# Altium integrated library TI Interface LVDS M-LVDS ECL CML.IntLib: 251 symbols (part 9 of 10)
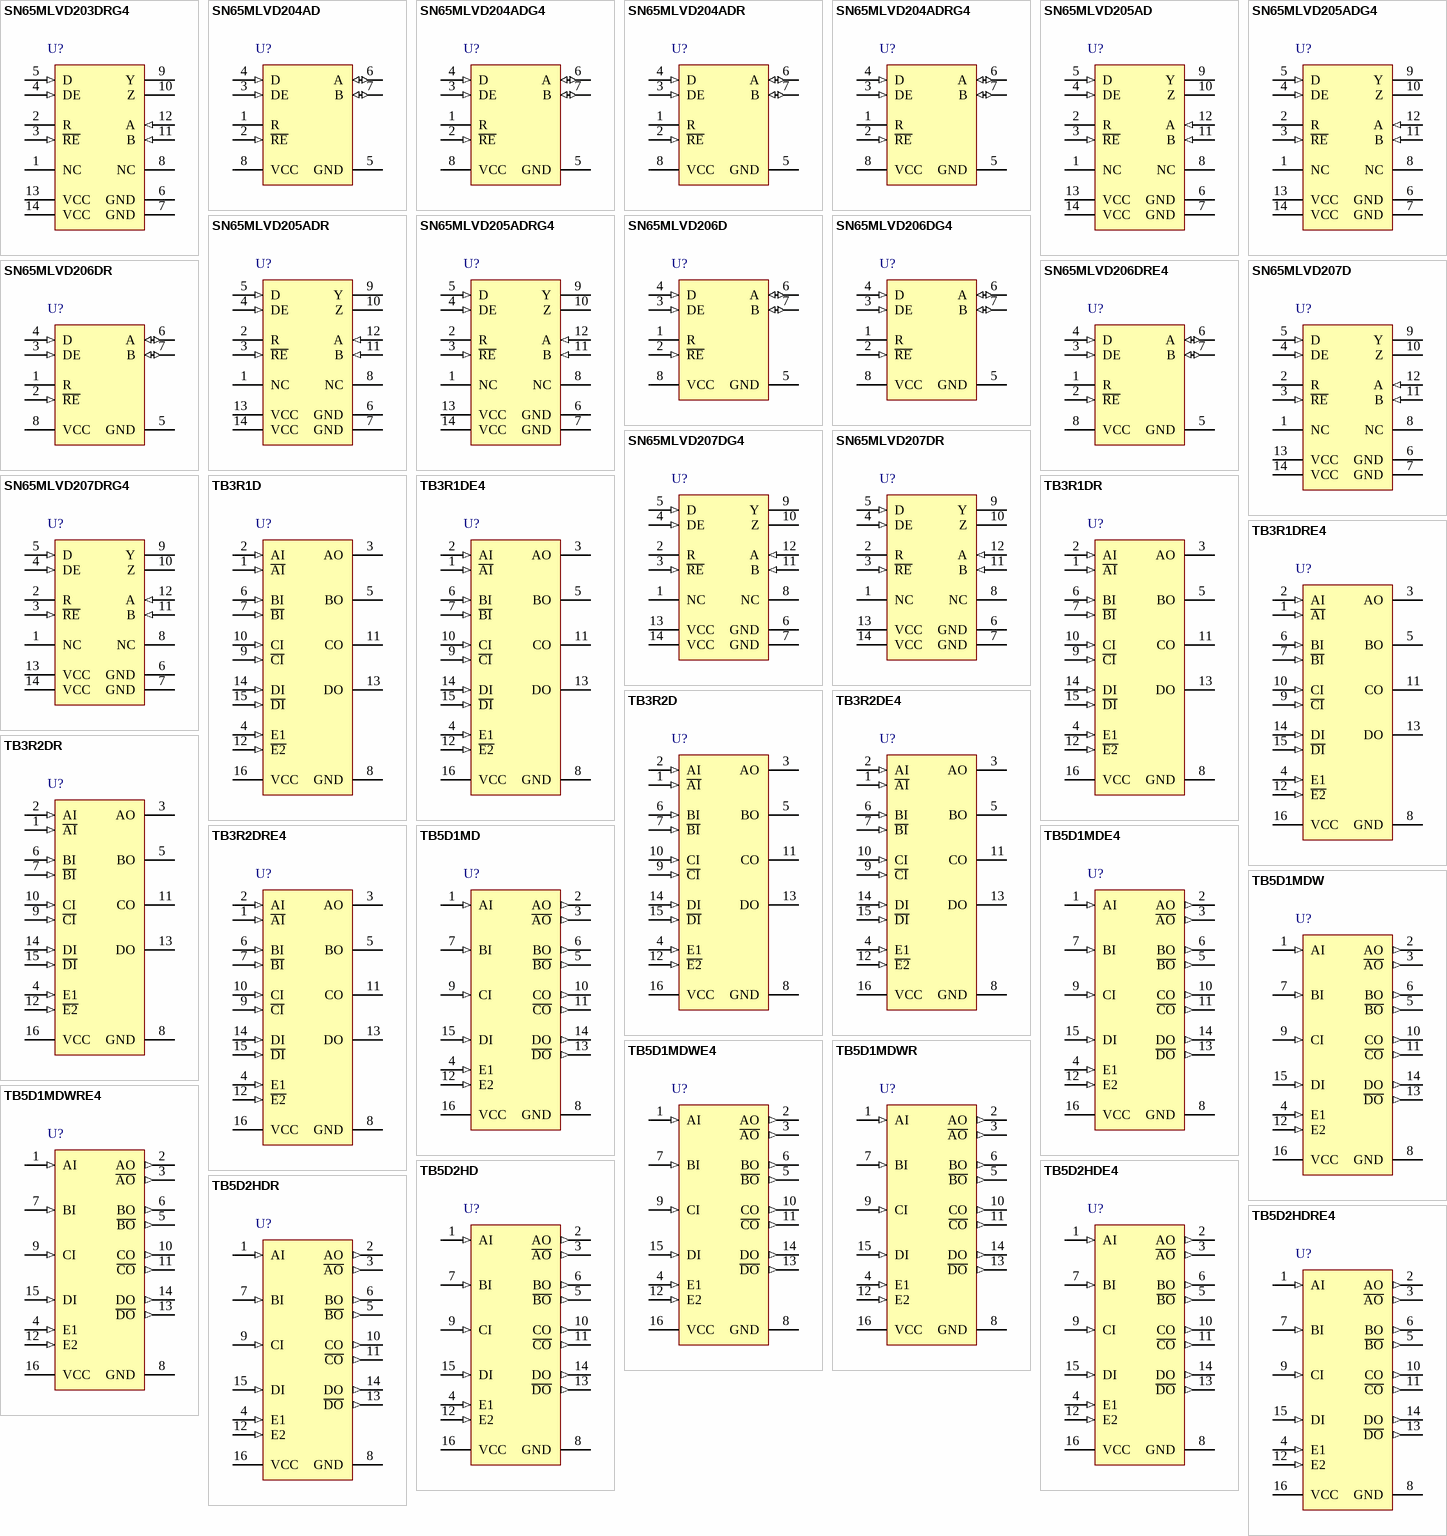
[diagram p17: symbols SN65MLVD203DRG4 to TB5D2HDRE4]

## SN65MLVD207DR
designator U?
200 Mbps Full Duplex M-LVDS Transceiver with LVTTL Input and LVTTL Output, 1 Tx and 1 Rx, -40 to +85 degC, 14-pin SOIC (D), Green (RoHS & no Sb/Br); Part-to-Part Skew(Max)(ps): 1000; Manufacturer: Texas Instruments; PartNumber: SN65MLVD207DR; ESD HBM(kV): 8; ICC(Max)(mA): 24; Input Signal: LVTTL, M-LVDS; No. of Rx: 1; Signaling Rate(Mbps): 200; SubFamily: M-LVDS PHY (<500Mbps); DatasheetVersion: SLLS558C; PackageVersion: revM, Jun-2011; PackageReference: D14; PackageDescription: 14-Pin Plastic Small Outline Integrated Circuit, 8.7 x 3.9 mm, Pitch 1.27 mm Pitch; Eco-Plan: Green (RoHS & no Sb/Br); Function: Transceiver; No. of Tx: 1; Output Signal: LVTTL, M-LVDS; Mounting Technology: Surface Mount; Code_JEDEC: MS-012AB; ComponentLink1Description: Datasheet; ComponentLink1URL: http://www.ti.com/general/docs/lit/getliterature.tsp?genericPartNumber=SN65MLVD207&fileType=pdf; ComponentLink2Description: URL Link1; ComponentLink2URL: SamplesURL:http://www.ti.com/product/sn65mlvd207#samples
footprint D14_N (SOIC, 14-Leads, Body 8.7x3.9mm, Pitch 1.27mm, IPC Medium Density)
footprint D14_L (SOIC, 14-Leads, Body 8.7x3.9mm, Pitch 1.27mm, IPC High Density)
footprint D14_M (SOIC, 14-Leads, Body 8.7x3.9mm, Pitch 1.27mm, IPC Low Density)
pins: 1 NC, 2 R (hiz), 3 ~{RE} (in), 4 DE (in), 5 D (in), 6 GND (power), 7 GND (power), 8 NC, 9 Y (hiz), 10 Z (hiz), 11 B (in), 12 A (in), 13 VCC (power), 14 VCC (power)

## SN65MLVD207DRG4
designator U?
200 Mbps Full Duplex M-LVDS Transceiver with LVTTL Input and LVTTL Output, 1 Tx and 1 Rx, -40 to +85 degC, 14-pin SOIC (D), Green (RoHS & no Sb/Br); Part-to-Part Skew(Max)(ps): 1000; Manufacturer: Texas Instruments; PartNumber: SN65MLVD207DRG4; ESD HBM(kV): 8; ICC(Max)(mA): 24; Input Signal: LVTTL, M-LVDS; No. of Rx: 1; Signaling Rate(Mbps): 200; SubFamily: M-LVDS PHY (<500Mbps); DatasheetVersion: SLLS558C; PackageVersion: revM, Jun-2011; PackageReference: D14; PackageDescription: 14-Pin Plastic Small Outline Integrated Circuit, 8.7 x 3.9 mm, Pitch 1.27 mm Pitch; Eco-Plan: Green (RoHS & no Sb/Br); Function: Transceiver; No. of Tx: 1; Output Signal: LVTTL, M-LVDS; Mounting Technology: Surface Mount; Code_JEDEC: MS-012AB; ComponentLink1Description: Datasheet; ComponentLink1URL: http://www.ti.com/general/docs/lit/getliterature.tsp?genericPartNumber=SN65MLVD207&fileType=pdf; ComponentLink2Description: URL Link1; ComponentLink2URL: SamplesURL:http://www.ti.com/product/sn65mlvd207#samples
footprint D14_N (SOIC, 14-Leads, Body 8.7x3.9mm, Pitch 1.27mm, IPC Medium Density)
footprint D14_L (SOIC, 14-Leads, Body 8.7x3.9mm, Pitch 1.27mm, IPC High Density)
footprint D14_M (SOIC, 14-Leads, Body 8.7x3.9mm, Pitch 1.27mm, IPC Low Density)
pins: 1 NC, 2 R (hiz), 3 ~{RE} (in), 4 DE (in), 5 D (in), 6 GND (power), 7 GND (power), 8 NC, 9 Y (hiz), 10 Z (hiz), 11 B (in), 12 A (in), 13 VCC (power), 14 VCC (power)

## TB3R1D
designator U?
3.3 V Quad PECL Receiver with TTL Output, 4 Rx, -40 to +85 degC, 16-pin SOIC (D), Pb-Free (RoHS); Part-to-Part Skew(Max)(ps): 1500; Manufacturer: Texas Instruments; PartNumber: TB3R1D; ICC(Max)(mA): 34; No. of Rx: 4; SubFamily: PECL PHY; xECL: TRUE; DatasheetVersion: SLLS587C; PackageVersion: revM, Jun-2011; PackageReference: D16; PackageDescription: 16-Pin Plastic Small Outline Integrated Circuit, 9.9 x 3.9 mm, Pitch 1.27 mm Pitch; Eco-Plan: Pb-Free (RoHS); Input Signal: PECL; Output Signal: TTL; Mounting Technology: Surface Mount; Code_JEDEC: MS-012AC; ComponentLink1Description: Datasheet; ComponentLink1URL: http://www.ti.com/general/docs/lit/getliterature.tsp?genericPartNumber=TB3R1&fileType=pdf; ComponentLink2Description: URL Link1; ComponentLink2URL: SamplesURL:http://www.ti.com/product/tb3r1#samples
footprint D16_N (SOIC, 16-Leads, Body 9.9x3.9mm, Pitch 1.27mm, IPC Medium Density)
footprint D16_L (SOIC, 16-Leads, Body 9.9x3.9mm, Pitch 1.27mm, IPC High Density)
footprint D16_M (SOIC, 16-Leads, Body 9.9x3.9mm, Pitch 1.27mm, IPC Low Density)
pins: 1 ~{AI} (in), 2 AI (in), 3 AO (hiz), 4 E1 (in), 5 BO (hiz), 6 BI (in), 7 ~{BI} (in), 8 GND (power), 9 ~{CI} (in), 10 CI (in), 11 CO (hiz), 12 ~{E2} (in), 13 DO (hiz), 14 DI (in), 15 ~{DI} (in), 16 VCC (power)

## TB3R1DE4
designator U?
3.3 V Quad PECL Receiver with TTL Output, 4 Rx, -40 to +85 degC, 16-pin SOIC (D), Pb-Free (RoHS); Part-to-Part Skew(Max)(ps): 1500; Manufacturer: Texas Instruments; PartNumber: TB3R1DE4; ICC(Max)(mA): 34; No. of Rx: 4; SubFamily: PECL PHY; xECL: TRUE; DatasheetVersion: SLLS587C; PackageVersion: revM, Jun-2011; PackageReference: D16; PackageDescription: 16-Pin Plastic Small Outline Integrated Circuit, 9.9 x 3.9 mm, Pitch 1.27 mm Pitch; Eco-Plan: Pb-Free (RoHS); Input Signal: PECL; Output Signal: TTL; Mounting Technology: Surface Mount; Code_JEDEC: MS-012AC; ComponentLink1Description: Datasheet; ComponentLink1URL: http://www.ti.com/general/docs/lit/getliterature.tsp?genericPartNumber=TB3R1&fileType=pdf; ComponentLink2Description: URL Link1; ComponentLink2URL: SamplesURL:http://www.ti.com/product/tb3r1#samples
footprint D16_N (SOIC, 16-Leads, Body 9.9x3.9mm, Pitch 1.27mm, IPC Medium Density)
footprint D16_L (SOIC, 16-Leads, Body 9.9x3.9mm, Pitch 1.27mm, IPC High Density)
footprint D16_M (SOIC, 16-Leads, Body 9.9x3.9mm, Pitch 1.27mm, IPC Low Density)
pins: 1 ~{AI} (in), 2 AI (in), 3 AO (hiz), 4 E1 (in), 5 BO (hiz), 6 BI (in), 7 ~{BI} (in), 8 GND (power), 9 ~{CI} (in), 10 CI (in), 11 CO (hiz), 12 ~{E2} (in), 13 DO (hiz), 14 DI (in), 15 ~{DI} (in), 16 VCC (power)

## TB3R1DR
designator U?
3.3 V Quad PECL Receiver with TTL Output, 4 Rx, -40 to +85 degC, 16-pin SOIC (D), Pb-Free (RoHS); Part-to-Part Skew(Max)(ps): 1500; Manufacturer: Texas Instruments; PartNumber: TB3R1DR; ICC(Max)(mA): 34; No. of Rx: 4; SubFamily: PECL PHY; xECL: TRUE; DatasheetVersion: SLLS587C; PackageVersion: revM, Jun-2011; PackageReference: D16; PackageDescription: 16-Pin Plastic Small Outline Integrated Circuit, 9.9 x 3.9 mm, Pitch 1.27 mm Pitch; Eco-Plan: Pb-Free (RoHS); Input Signal: PECL; Output Signal: TTL; Mounting Technology: Surface Mount; Code_JEDEC: MS-012AC; ComponentLink1Description: Datasheet; ComponentLink1URL: http://www.ti.com/general/docs/lit/getliterature.tsp?genericPartNumber=TB3R1&fileType=pdf; ComponentLink2Description: URL Link1; ComponentLink2URL: SamplesURL:http://www.ti.com/product/tb3r1#samples
footprint D16_N (SOIC, 16-Leads, Body 9.9x3.9mm, Pitch 1.27mm, IPC Medium Density)
footprint D16_L (SOIC, 16-Leads, Body 9.9x3.9mm, Pitch 1.27mm, IPC High Density)
footprint D16_M (SOIC, 16-Leads, Body 9.9x3.9mm, Pitch 1.27mm, IPC Low Density)
pins: 1 ~{AI} (in), 2 AI (in), 3 AO (hiz), 4 E1 (in), 5 BO (hiz), 6 BI (in), 7 ~{BI} (in), 8 GND (power), 9 ~{CI} (in), 10 CI (in), 11 CO (hiz), 12 ~{E2} (in), 13 DO (hiz), 14 DI (in), 15 ~{DI} (in), 16 VCC (power)

## TB3R1DRE4
designator U?
3.3 V Quad PECL Receiver with TTL Output, 4 Rx, -40 to +85 degC, 16-pin SOIC (D), Pb-Free (RoHS); Part-to-Part Skew(Max)(ps): 1500; Manufacturer: Texas Instruments; PartNumber: TB3R1DRE4; ICC(Max)(mA): 34; No. of Rx: 4; SubFamily: PECL PHY; xECL: TRUE; DatasheetVersion: SLLS587C; PackageVersion: revM, Jun-2011; PackageReference: D16; PackageDescription: 16-Pin Plastic Small Outline Integrated Circuit, 9.9 x 3.9 mm, Pitch 1.27 mm Pitch; Eco-Plan: Pb-Free (RoHS); Input Signal: PECL; Output Signal: TTL; Mounting Technology: Surface Mount; Code_JEDEC: MS-012AC; ComponentLink1Description: Datasheet; ComponentLink1URL: http://www.ti.com/general/docs/lit/getliterature.tsp?genericPartNumber=TB3R1&fileType=pdf; ComponentLink2Description: URL Link1; ComponentLink2URL: SamplesURL:http://www.ti.com/product/tb3r1#samples
footprint D16_N (SOIC, 16-Leads, Body 9.9x3.9mm, Pitch 1.27mm, IPC Medium Density)
footprint D16_L (SOIC, 16-Leads, Body 9.9x3.9mm, Pitch 1.27mm, IPC High Density)
footprint D16_M (SOIC, 16-Leads, Body 9.9x3.9mm, Pitch 1.27mm, IPC Low Density)
pins: 1 ~{AI} (in), 2 AI (in), 3 AO (hiz), 4 E1 (in), 5 BO (hiz), 6 BI (in), 7 ~{BI} (in), 8 GND (power), 9 ~{CI} (in), 10 CI (in), 11 CO (hiz), 12 ~{E2} (in), 13 DO (hiz), 14 DI (in), 15 ~{DI} (in), 16 VCC (power)

## TB3R2D
designator U?
TB3R1, TB3R2 - High-Speed Differential Receivers with PECL Input and TTL Output, 4 Tx and 4 Rx, -40 to +85 degC, 16-pin SOIC (D), Pb-Free (RoHS); Part-to-Part Skew(Max)(ps): 1500; Manufacturer: Texas Instruments; PartNumber: TB3R2D; ICC(Max)(mA): 34; No. of Rx: 4; SubFamily: PECL PHY; xECL: TRUE; DatasheetVersion: SLLS587C; PackageVersion: revM, Jun-2011; PackageReference: D16; PackageDescription: 16-Pin Plastic Small Outline Integrated Circuit, 9.9 x 3.9 mm, Pitch 1.27 mm Pitch; Eco-Plan: Pb-Free (RoHS); Input Signal: PECL; No. of Tx: 4; Output Signal: TTL; Mounting Technology: Surface Mount; Code_JEDEC: MS-012AC; ComponentLink1Description: Datasheet; ComponentLink1URL: http://www.ti.com/general/docs/lit/getliterature.tsp?genericPartNumber=TB3R2&fileType=pdf; ComponentLink2Description: URL Link1; ComponentLink2URL: SamplesURL:http://www.ti.com/product/tb3r2#samples
footprint D16_N (SOIC, 16-Leads, Body 9.9x3.9mm, Pitch 1.27mm, IPC Medium Density)
footprint D16_L (SOIC, 16-Leads, Body 9.9x3.9mm, Pitch 1.27mm, IPC High Density)
footprint D16_M (SOIC, 16-Leads, Body 9.9x3.9mm, Pitch 1.27mm, IPC Low Density)
pins: 1 ~{AI} (in), 2 AI (in), 3 AO (hiz), 4 E1 (in), 5 BO (hiz), 6 BI (in), 7 ~{BI} (in), 8 GND (power), 9 ~{CI} (in), 10 CI (in), 11 CO (hiz), 12 ~{E2} (in), 13 DO (hiz), 14 DI (in), 15 ~{DI} (in), 16 VCC (power)

## TB3R2DE4
designator U?
TB3R1, TB3R2 - High-Speed Differential Receivers with PECL Input and TTL Output, 4 Tx and 4 Rx, -40 to +85 degC, 16-pin SOIC (D), Pb-Free (RoHS); Part-to-Part Skew(Max)(ps): 1500; Manufacturer: Texas Instruments; PartNumber: TB3R2DE4; ICC(Max)(mA): 34; No. of Rx: 4; SubFamily: PECL PHY; xECL: TRUE; DatasheetVersion: SLLS587C; PackageVersion: revM, Jun-2011; PackageReference: D16; PackageDescription: 16-Pin Plastic Small Outline Integrated Circuit, 9.9 x 3.9 mm, Pitch 1.27 mm Pitch; Eco-Plan: Pb-Free (RoHS); Input Signal: PECL; No. of Tx: 4; Output Signal: TTL; Mounting Technology: Surface Mount; Code_JEDEC: MS-012AC; ComponentLink1Description: Datasheet; ComponentLink1URL: http://www.ti.com/general/docs/lit/getliterature.tsp?genericPartNumber=TB3R2&fileType=pdf; ComponentLink2Description: URL Link1; ComponentLink2URL: SamplesURL:http://www.ti.com/product/tb3r2#samples
footprint D16_N (SOIC, 16-Leads, Body 9.9x3.9mm, Pitch 1.27mm, IPC Medium Density)
footprint D16_L (SOIC, 16-Leads, Body 9.9x3.9mm, Pitch 1.27mm, IPC High Density)
footprint D16_M (SOIC, 16-Leads, Body 9.9x3.9mm, Pitch 1.27mm, IPC Low Density)
pins: 1 ~{AI} (in), 2 AI (in), 3 AO (hiz), 4 E1 (in), 5 BO (hiz), 6 BI (in), 7 ~{BI} (in), 8 GND (power), 9 ~{CI} (in), 10 CI (in), 11 CO (hiz), 12 ~{E2} (in), 13 DO (hiz), 14 DI (in), 15 ~{DI} (in), 16 VCC (power)

## TB3R2DR
designator U?
TB3R1, TB3R2 - High-Speed Differential Receivers with PECL Input and TTL Output, 4 Tx and 4 Rx, -40 to +85 degC, 16-pin SOIC (D), Pb-Free (RoHS); Part-to-Part Skew(Max)(ps): 1500; Manufacturer: Texas Instruments; PartNumber: TB3R2DR; ICC(Max)(mA): 34; No. of Rx: 4; SubFamily: PECL PHY; xECL: TRUE; DatasheetVersion: SLLS587C; PackageVersion: revM, Jun-2011; PackageReference: D16; PackageDescription: 16-Pin Plastic Small Outline Integrated Circuit, 9.9 x 3.9 mm, Pitch 1.27 mm Pitch; Eco-Plan: Pb-Free (RoHS); Input Signal: PECL; No. of Tx: 4; Output Signal: TTL; Mounting Technology: Surface Mount; Code_JEDEC: MS-012AC; ComponentLink1Description: Datasheet; ComponentLink1URL: http://www.ti.com/general/docs/lit/getliterature.tsp?genericPartNumber=TB3R2&fileType=pdf; ComponentLink2Description: URL Link1; ComponentLink2URL: SamplesURL:http://www.ti.com/product/tb3r2#samples
footprint D16_N (SOIC, 16-Leads, Body 9.9x3.9mm, Pitch 1.27mm, IPC Medium Density)
footprint D16_L (SOIC, 16-Leads, Body 9.9x3.9mm, Pitch 1.27mm, IPC High Density)
footprint D16_M (SOIC, 16-Leads, Body 9.9x3.9mm, Pitch 1.27mm, IPC Low Density)
pins: 1 ~{AI} (in), 2 AI (in), 3 AO (hiz), 4 E1 (in), 5 BO (hiz), 6 BI (in), 7 ~{BI} (in), 8 GND (power), 9 ~{CI} (in), 10 CI (in), 11 CO (hiz), 12 ~{E2} (in), 13 DO (hiz), 14 DI (in), 15 ~{DI} (in), 16 VCC (power)

## TB3R2DRE4
designator U?
TB3R1, TB3R2 - High-Speed Differential Receivers with PECL Input and TTL Output, 4 Tx and 4 Rx, -40 to +85 degC, 16-pin SOIC (D), Pb-Free (RoHS); Part-to-Part Skew(Max)(ps): 1500; Manufacturer: Texas Instruments; PartNumber: TB3R2DRE4; ICC(Max)(mA): 34; No. of Rx: 4; SubFamily: PECL PHY; xECL: TRUE; DatasheetVersion: SLLS587C; PackageVersion: revM, Jun-2011; PackageReference: D16; PackageDescription: 16-Pin Plastic Small Outline Integrated Circuit, 9.9 x 3.9 mm, Pitch 1.27 mm Pitch; Eco-Plan: Pb-Free (RoHS); Input Signal: PECL; No. of Tx: 4; Output Signal: TTL; Mounting Technology: Surface Mount; Code_JEDEC: MS-012AC; ComponentLink1Description: Datasheet; ComponentLink1URL: http://www.ti.com/general/docs/lit/getliterature.tsp?genericPartNumber=TB3R2&fileType=pdf; ComponentLink2Description: URL Link1; ComponentLink2URL: SamplesURL:http://www.ti.com/product/tb3r2#samples
footprint D16_N (SOIC, 16-Leads, Body 9.9x3.9mm, Pitch 1.27mm, IPC Medium Density)
footprint D16_L (SOIC, 16-Leads, Body 9.9x3.9mm, Pitch 1.27mm, IPC High Density)
footprint D16_M (SOIC, 16-Leads, Body 9.9x3.9mm, Pitch 1.27mm, IPC Low Density)
pins: 1 ~{AI} (in), 2 AI (in), 3 AO (hiz), 4 E1 (in), 5 BO (hiz), 6 BI (in), 7 ~{BI} (in), 8 GND (power), 9 ~{CI} (in), 10 CI (in), 11 CO (hiz), 12 ~{E2} (in), 13 DO (hiz), 14 DI (in), 15 ~{DI} (in), 16 VCC (power)

## TB5D1MD
designator U?
5 V Quad PECL Driver with TTL Input and PECL Output, 4 Tx, -40 to +85 degC, 16-pin SOIC (D), Pb-Free (RoHS); Part-to-Part Skew(Max)(ps): 1000; Manufacturer: Texas Instruments; PartNumber: TB5D1MD; ICC(Max)(mA): 40; No. of Tx: 4; SubFamily: PECL PHY; xECL: TRUE; DatasheetVersion: SLLS579C; PackageVersion: revM, Jun-2011; PackageReference: D16; PackageDescription: 16-Pin Plastic Small Outline Integrated Circuit, 9.9 x 3.9 mm, Pitch 1.27 mm Pitch; Eco-Plan: Pb-Free (RoHS); Input Signal: TTL; Output Signal: PECL; Mounting Technology: Surface Mount; Code_JEDEC: MS-012AC; ComponentLink1Description: Datasheet; ComponentLink1URL: http://www.ti.com/general/docs/lit/getliterature.tsp?genericPartNumber=TB5D1M&fileType=pdf; ComponentLink2Description: URL Link1; ComponentLink2URL: SamplesURL:http://www.ti.com/product/tb5d1m#samples
footprint D16_N (SOIC, 16-Leads, Body 9.9x3.9mm, Pitch 1.27mm, IPC Medium Density)
footprint D16_L (SOIC, 16-Leads, Body 9.9x3.9mm, Pitch 1.27mm, IPC High Density)
footprint D16_M (SOIC, 16-Leads, Body 9.9x3.9mm, Pitch 1.27mm, IPC Low Density)
pins: 1 AI (in), 2 AO (out), 3 ~{AO} (out), 4 E1 (in), 5 ~{BO} (out), 6 BO (out), 7 BI (in), 8 GND (power), 9 CI (in), 10 CO (out), 11 ~{CO} (out), 12 E2 (in), 13 ~{DO} (out), 14 DO (out), 15 DI (in), 16 VCC (power)

## TB5D1MDE4
designator U?
5 V Quad PECL Driver with TTL Input and PECL Output, 4 Tx, -40 to +85 degC, 16-pin SOIC (D), Pb-Free (RoHS); Part-to-Part Skew(Max)(ps): 1000; Manufacturer: Texas Instruments; PartNumber: TB5D1MDE4; ICC(Max)(mA): 40; No. of Tx: 4; SubFamily: PECL PHY; xECL: TRUE; DatasheetVersion: SLLS579C; PackageVersion: revM, Jun-2011; PackageReference: D16; PackageDescription: 16-Pin Plastic Small Outline Integrated Circuit, 9.9 x 3.9 mm, Pitch 1.27 mm Pitch; Eco-Plan: Pb-Free (RoHS); Input Signal: TTL; Output Signal: PECL; Mounting Technology: Surface Mount; Code_JEDEC: MS-012AC; ComponentLink1Description: Datasheet; ComponentLink1URL: http://www.ti.com/general/docs/lit/getliterature.tsp?genericPartNumber=TB5D1M&fileType=pdf; ComponentLink2Description: URL Link1; ComponentLink2URL: SamplesURL:http://www.ti.com/product/tb5d1m#samples
footprint D16_N (SOIC, 16-Leads, Body 9.9x3.9mm, Pitch 1.27mm, IPC Medium Density)
footprint D16_L (SOIC, 16-Leads, Body 9.9x3.9mm, Pitch 1.27mm, IPC High Density)
footprint D16_M (SOIC, 16-Leads, Body 9.9x3.9mm, Pitch 1.27mm, IPC Low Density)
pins: 1 AI (in), 2 AO (out), 3 ~{AO} (out), 4 E1 (in), 5 ~{BO} (out), 6 BO (out), 7 BI (in), 8 GND (power), 9 CI (in), 10 CO (out), 11 ~{CO} (out), 12 E2 (in), 13 ~{DO} (out), 14 DO (out), 15 DI (in), 16 VCC (power)

## TB5D1MDW
designator U?
5 V Quad PECL Driver with TTL Input and PECL Output, 4 Tx, -40 to +85 degC, 16-pin SOIC (DW), Pb-Free (RoHS); Part-to-Part Skew(Max)(ps): 1000; Manufacturer: Texas Instruments; PartNumber: TB5D1MDW; ICC(Max)(mA): 40; No. of Tx: 4; SubFamily: PECL PHY; xECL: TRUE; DatasheetVersion: SLLS579C; PackageVersion: revG, Jan-2011; PackageReference: DW16; PackageDescription: 16-Pin Small Outline Integrated Circuit, 10.3 x 7.5 mm, Pitch 1.27 mm Pitch; Eco-Plan: Pb-Free (RoHS); Input Signal: TTL; Output Signal: PECL; Mounting Technology: Surface Mount; Code_JEDEC: MS-013-AA; ComponentLink1Description: Datasheet; ComponentLink1URL: http://www.ti.com/general/docs/lit/getliterature.tsp?genericPartNumber=TB5D1M&fileType=pdf; ComponentLink2Description: URL Link1; ComponentLink2URL: SamplesURL:http://www.ti.com/product/tb5d1m#samples
footprint DW16_N (SOIC, 16-Leads, Body 10.3x7.5mm, Pitch 1.27mm, IPC Medium Density)
footprint DW16_L (SOIC, 16-Leads, Body 10.3x7.5mm, Pitch 1.27mm, IPC High Density)
footprint DW16_M (SOIC, 16-Leads, Body 10.3x7.5mm, Pitch 1.27mm, IPC Low Density)
pins: 1 AI (in), 2 AO (out), 3 ~{AO} (out), 4 E1 (in), 5 ~{BO} (out), 6 BO (out), 7 BI (in), 8 GND (power), 9 CI (in), 10 CO (out), 11 ~{CO} (out), 12 E2 (in), 13 ~{DO} (out), 14 DO (out), 15 DI (in), 16 VCC (power)

## TB5D1MDWE4
designator U?
5 V Quad PECL Driver with TTL Input and PECL Output, 4 Tx, -40 to +85 degC, 16-pin SOIC (DW), Pb-Free (RoHS); Part-to-Part Skew(Max)(ps): 1000; Manufacturer: Texas Instruments; PartNumber: TB5D1MDWE4; ICC(Max)(mA): 40; No. of Tx: 4; SubFamily: PECL PHY; xECL: TRUE; DatasheetVersion: SLLS579C; PackageVersion: revG, Jan-2011; PackageReference: DW16; PackageDescription: 16-Pin Small Outline Integrated Circuit, 10.3 x 7.5 mm, Pitch 1.27 mm Pitch; Eco-Plan: Pb-Free (RoHS); Input Signal: TTL; Output Signal: PECL; Mounting Technology: Surface Mount; Code_JEDEC: MS-013-AA; ComponentLink1Description: Datasheet; ComponentLink1URL: http://www.ti.com/general/docs/lit/getliterature.tsp?genericPartNumber=TB5D1M&fileType=pdf; ComponentLink2Description: URL Link1; ComponentLink2URL: SamplesURL:http://www.ti.com/product/tb5d1m#samples
footprint DW16_N (SOIC, 16-Leads, Body 10.3x7.5mm, Pitch 1.27mm, IPC Medium Density)
footprint DW16_L (SOIC, 16-Leads, Body 10.3x7.5mm, Pitch 1.27mm, IPC High Density)
footprint DW16_M (SOIC, 16-Leads, Body 10.3x7.5mm, Pitch 1.27mm, IPC Low Density)
pins: 1 AI (in), 2 AO (out), 3 ~{AO} (out), 4 E1 (in), 5 ~{BO} (out), 6 BO (out), 7 BI (in), 8 GND (power), 9 CI (in), 10 CO (out), 11 ~{CO} (out), 12 E2 (in), 13 ~{DO} (out), 14 DO (out), 15 DI (in), 16 VCC (power)

## TB5D1MDWR
designator U?
5 V Quad PECL Driver with TTL Input and PECL Output, 4 Tx, -40 to +85 degC, 16-pin SOIC (DW), Pb-Free (RoHS); Part-to-Part Skew(Max)(ps): 1000; Manufacturer: Texas Instruments; PartNumber: TB5D1MDWR; ICC(Max)(mA): 40; No. of Tx: 4; SubFamily: PECL PHY; xECL: TRUE; DatasheetVersion: SLLS579C; PackageVersion: revG, Jan-2011; PackageReference: DW16; PackageDescription: 16-Pin Small Outline Integrated Circuit, 10.3 x 7.5 mm, Pitch 1.27 mm Pitch; Eco-Plan: Pb-Free (RoHS); Input Signal: TTL; Output Signal: PECL; Mounting Technology: Surface Mount; Code_JEDEC: MS-013-AA; ComponentLink1Description: Datasheet; ComponentLink1URL: http://www.ti.com/general/docs/lit/getliterature.tsp?genericPartNumber=TB5D1M&fileType=pdf; ComponentLink2Description: URL Link1; ComponentLink2URL: SamplesURL:http://www.ti.com/product/tb5d1m#samples
footprint DW16_N (SOIC, 16-Leads, Body 10.3x7.5mm, Pitch 1.27mm, IPC Medium Density)
footprint DW16_L (SOIC, 16-Leads, Body 10.3x7.5mm, Pitch 1.27mm, IPC High Density)
footprint DW16_M (SOIC, 16-Leads, Body 10.3x7.5mm, Pitch 1.27mm, IPC Low Density)
pins: 1 AI (in), 2 AO (out), 3 ~{AO} (out), 4 E1 (in), 5 ~{BO} (out), 6 BO (out), 7 BI (in), 8 GND (power), 9 CI (in), 10 CO (out), 11 ~{CO} (out), 12 E2 (in), 13 ~{DO} (out), 14 DO (out), 15 DI (in), 16 VCC (power)

## TB5D1MDWRE4
designator U?
5 V Quad PECL Driver with TTL Input and PECL Output, 4 Tx, -40 to +85 degC, 16-pin SOIC (DW), Pb-Free (RoHS); Part-to-Part Skew(Max)(ps): 1000; Manufacturer: Texas Instruments; PartNumber: TB5D1MDWRE4; ICC(Max)(mA): 40; No. of Tx: 4; SubFamily: PECL PHY; xECL: TRUE; DatasheetVersion: SLLS579C; PackageVersion: revG, Jan-2011; PackageReference: DW16; PackageDescription: 16-Pin Small Outline Integrated Circuit, 10.3 x 7.5 mm, Pitch 1.27 mm Pitch; Eco-Plan: Pb-Free (RoHS); Input Signal: TTL; Output Signal: PECL; Mounting Technology: Surface Mount; Code_JEDEC: MS-013-AA; ComponentLink1Description: Datasheet; ComponentLink1URL: http://www.ti.com/general/docs/lit/getliterature.tsp?genericPartNumber=TB5D1M&fileType=pdf; ComponentLink2Description: URL Link1; ComponentLink2URL: SamplesURL:http://www.ti.com/product/tb5d1m#samples
footprint DW16_N (SOIC, 16-Leads, Body 10.3x7.5mm, Pitch 1.27mm, IPC Medium Density)
footprint DW16_L (SOIC, 16-Leads, Body 10.3x7.5mm, Pitch 1.27mm, IPC High Density)
footprint DW16_M (SOIC, 16-Leads, Body 10.3x7.5mm, Pitch 1.27mm, IPC Low Density)
pins: 1 AI (in), 2 AO (out), 3 ~{AO} (out), 4 E1 (in), 5 ~{BO} (out), 6 BO (out), 7 BI (in), 8 GND (power), 9 CI (in), 10 CO (out), 11 ~{CO} (out), 12 E2 (in), 13 ~{DO} (out), 14 DO (out), 15 DI (in), 16 VCC (power)

## TB5D2HD
designator U?
5 V Quad PECL Driver with TTL Input and PECL Output, 4 Tx, -40 to +85 degC, 16-pin SOIC (D), Pb-Free (RoHS); Part-to-Part Skew(Max)(ps): 1000; Manufacturer: Texas Instruments; PartNumber: TB5D2HD; ICC(Max)(mA): 40; No. of Tx: 4; SubFamily: PECL PHY; xECL: TRUE; DatasheetVersion: SLLS579C; PackageVersion: revM, Jun-2011; PackageReference: D16; PackageDescription: 16-Pin Plastic Small Outline Integrated Circuit, 9.9 x 3.9 mm, Pitch 1.27 mm Pitch; Eco-Plan: Pb-Free (RoHS); Input Signal: TTL; Output Signal: PECL; Mounting Technology: Surface Mount; Code_JEDEC: MS-012AC; ComponentLink1Description: Datasheet; ComponentLink1URL: http://www.ti.com/general/docs/lit/getliterature.tsp?genericPartNumber=TB5D2H&fileType=pdf; ComponentLink2Description: URL Link1; ComponentLink2URL: SamplesURL:http://www.ti.com/product/tb5d2h#samples
footprint D16_N (SOIC, 16-Leads, Body 9.9x3.9mm, Pitch 1.27mm, IPC Medium Density)
footprint D16_L (SOIC, 16-Leads, Body 9.9x3.9mm, Pitch 1.27mm, IPC High Density)
footprint D16_M (SOIC, 16-Leads, Body 9.9x3.9mm, Pitch 1.27mm, IPC Low Density)
pins: 1 AI (in), 2 AO (out), 3 ~{AO} (out), 4 E1 (in), 5 ~{BO} (out), 6 BO (out), 7 BI (in), 8 GND (power), 9 CI (in), 10 CO (out), 11 ~{CO} (out), 12 E2 (in), 13 ~{DO} (out), 14 DO (out), 15 DI (in), 16 VCC (power)

## TB5D2HDE4
designator U?
5 V Quad PECL Driver with TTL Input and PECL Output, 4 Tx, -40 to +85 degC, 16-pin SOIC (D), Pb-Free (RoHS); Part-to-Part Skew(Max)(ps): 1000; Manufacturer: Texas Instruments; PartNumber: TB5D2HDE4; ICC(Max)(mA): 40; No. of Tx: 4; SubFamily: PECL PHY; xECL: TRUE; DatasheetVersion: SLLS579C; PackageVersion: revM, Jun-2011; PackageReference: D16; PackageDescription: 16-Pin Plastic Small Outline Integrated Circuit, 9.9 x 3.9 mm, Pitch 1.27 mm Pitch; Eco-Plan: Pb-Free (RoHS); Input Signal: TTL; Output Signal: PECL; Mounting Technology: Surface Mount; Code_JEDEC: MS-012AC; ComponentLink1Description: Datasheet; ComponentLink1URL: http://www.ti.com/general/docs/lit/getliterature.tsp?genericPartNumber=TB5D2H&fileType=pdf; ComponentLink2Description: URL Link1; ComponentLink2URL: SamplesURL:http://www.ti.com/product/tb5d2h#samples
footprint D16_N (SOIC, 16-Leads, Body 9.9x3.9mm, Pitch 1.27mm, IPC Medium Density)
footprint D16_L (SOIC, 16-Leads, Body 9.9x3.9mm, Pitch 1.27mm, IPC High Density)
footprint D16_M (SOIC, 16-Leads, Body 9.9x3.9mm, Pitch 1.27mm, IPC Low Density)
pins: 1 AI (in), 2 AO (out), 3 ~{AO} (out), 4 E1 (in), 5 ~{BO} (out), 6 BO (out), 7 BI (in), 8 GND (power), 9 CI (in), 10 CO (out), 11 ~{CO} (out), 12 E2 (in), 13 ~{DO} (out), 14 DO (out), 15 DI (in), 16 VCC (power)

## TB5D2HDR
designator U?
5 V Quad PECL Driver with TTL Input and PECL Output, 4 Tx, -40 to +85 degC, 16-pin SOIC (D), Pb-Free (RoHS); Part-to-Part Skew(Max)(ps): 1000; Manufacturer: Texas Instruments; PartNumber: TB5D2HDR; ICC(Max)(mA): 40; No. of Tx: 4; SubFamily: PECL PHY; xECL: TRUE; DatasheetVersion: SLLS579C; PackageVersion: revM, Jun-2011; PackageReference: D16; PackageDescription: 16-Pin Plastic Small Outline Integrated Circuit, 9.9 x 3.9 mm, Pitch 1.27 mm Pitch; Eco-Plan: Pb-Free (RoHS); Input Signal: TTL; Output Signal: PECL; Mounting Technology: Surface Mount; Code_JEDEC: MS-012AC; ComponentLink1Description: Datasheet; ComponentLink1URL: http://www.ti.com/general/docs/lit/getliterature.tsp?genericPartNumber=TB5D2H&fileType=pdf; ComponentLink2Description: URL Link1; ComponentLink2URL: SamplesURL:http://www.ti.com/product/tb5d2h#samples
footprint D16_N (SOIC, 16-Leads, Body 9.9x3.9mm, Pitch 1.27mm, IPC Medium Density)
footprint D16_L (SOIC, 16-Leads, Body 9.9x3.9mm, Pitch 1.27mm, IPC High Density)
footprint D16_M (SOIC, 16-Leads, Body 9.9x3.9mm, Pitch 1.27mm, IPC Low Density)
pins: 1 AI (in), 2 AO (out), 3 ~{AO} (out), 4 E1 (in), 5 ~{BO} (out), 6 BO (out), 7 BI (in), 8 GND (power), 9 CI (in), 10 CO (out), 11 ~{CO} (out), 12 E2 (in), 13 ~{DO} (out), 14 DO (out), 15 DI (in), 16 VCC (power)

## TB5D2HDRE4
designator U?
5 V Quad PECL Driver with TTL Input and PECL Output, 4 Tx, -40 to +85 degC, 16-pin SOIC (D), Pb-Free (RoHS); Part-to-Part Skew(Max)(ps): 1000; Manufacturer: Texas Instruments; PartNumber: TB5D2HDRE4; ICC(Max)(mA): 40; No. of Tx: 4; SubFamily: PECL PHY; xECL: TRUE; DatasheetVersion: SLLS579C; PackageVersion: revM, Jun-2011; PackageReference: D16; PackageDescription: 16-Pin Plastic Small Outline Integrated Circuit, 9.9 x 3.9 mm, Pitch 1.27 mm Pitch; Eco-Plan: Pb-Free (RoHS); Input Signal: TTL; Output Signal: PECL; Mounting Technology: Surface Mount; Code_JEDEC: MS-012AC; ComponentLink1Description: Datasheet; ComponentLink1URL: http://www.ti.com/general/docs/lit/getliterature.tsp?genericPartNumber=TB5D2H&fileType=pdf; ComponentLink2Description: URL Link1; ComponentLink2URL: SamplesURL:http://www.ti.com/product/tb5d2h#samples
footprint D16_N (SOIC, 16-Leads, Body 9.9x3.9mm, Pitch 1.27mm, IPC Medium Density)
footprint D16_L (SOIC, 16-Leads, Body 9.9x3.9mm, Pitch 1.27mm, IPC High Density)
footprint D16_M (SOIC, 16-Leads, Body 9.9x3.9mm, Pitch 1.27mm, IPC Low Density)
pins: 1 AI (in), 2 AO (out), 3 ~{AO} (out), 4 E1 (in), 5 ~{BO} (out), 6 BO (out), 7 BI (in), 8 GND (power), 9 CI (in), 10 CO (out), 11 ~{CO} (out), 12 E2 (in), 13 ~{DO} (out), 14 DO (out), 15 DI (in), 16 VCC (power)

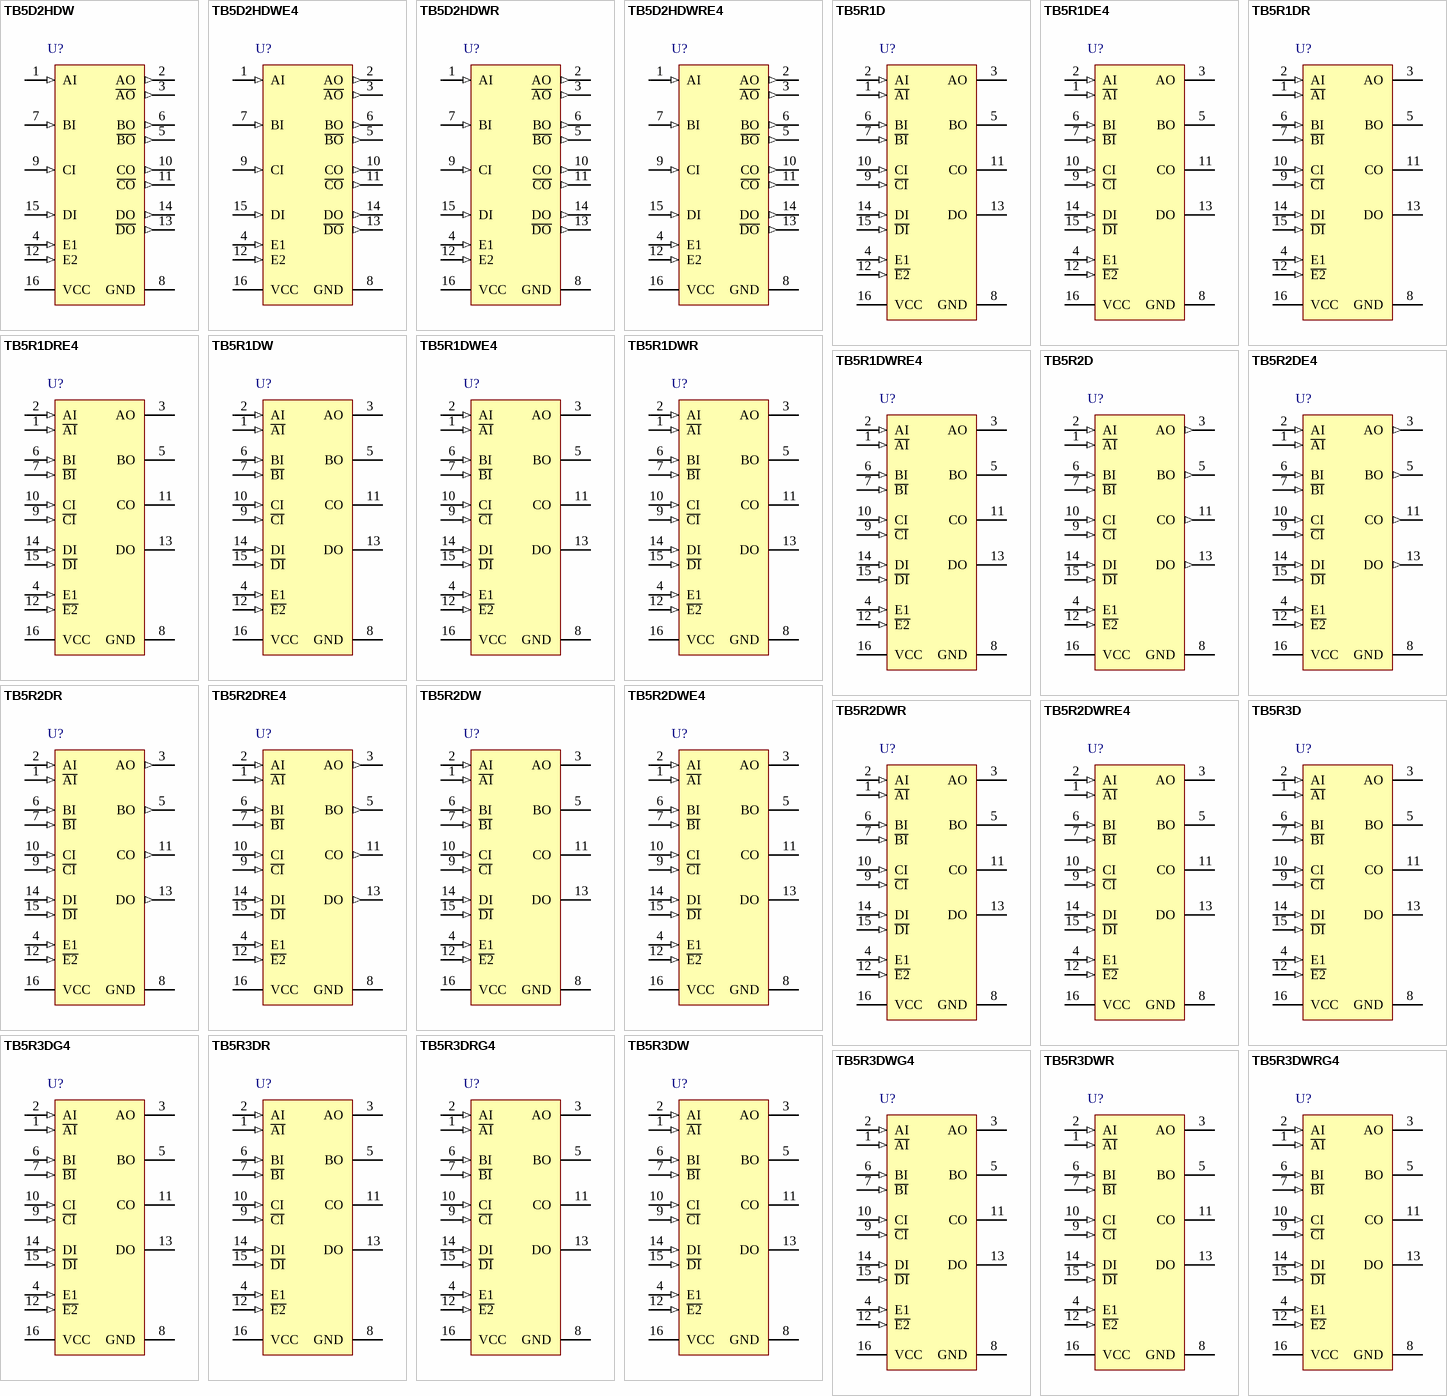
[diagram p8: symbols TB5D2HDW to TB5R3DWRG4]

## TB5D2HDW
designator U?
5 V Quad PECL Driver with TTL Input and PECL Output, 4 Tx, -40 to +85 degC, 16-pin SOIC (DW), Pb-Free (RoHS); Part-to-Part Skew(Max)(ps): 1000; Manufacturer: Texas Instruments; PartNumber: TB5D2HDW; ICC(Max)(mA): 40; No. of Tx: 4; SubFamily: PECL PHY; xECL: TRUE; DatasheetVersion: SLLS579C; PackageVersion: revG, Jan-2011; PackageReference: DW16; PackageDescription: 16-Pin Small Outline Integrated Circuit, 10.3 x 7.5 mm, Pitch 1.27 mm Pitch; Eco-Plan: Pb-Free (RoHS); Input Signal: TTL; Output Signal: PECL; Mounting Technology: Surface Mount; Code_JEDEC: MS-013-AA; ComponentLink1Description: Datasheet; ComponentLink1URL: http://www.ti.com/general/docs/lit/getliterature.tsp?genericPartNumber=TB5D2H&fileType=pdf; ComponentLink2Description: URL Link1; ComponentLink2URL: SamplesURL:http://www.ti.com/product/tb5d2h#samples
footprint DW16_N (SOIC, 16-Leads, Body 10.3x7.5mm, Pitch 1.27mm, IPC Medium Density)
footprint DW16_L (SOIC, 16-Leads, Body 10.3x7.5mm, Pitch 1.27mm, IPC High Density)
footprint DW16_M (SOIC, 16-Leads, Body 10.3x7.5mm, Pitch 1.27mm, IPC Low Density)
pins: 1 AI (in), 2 AO (out), 3 ~{AO} (out), 4 E1 (in), 5 ~{BO} (out), 6 BO (out), 7 BI (in), 8 GND (power), 9 CI (in), 10 CO (out), 11 ~{CO} (out), 12 E2 (in), 13 ~{DO} (out), 14 DO (out), 15 DI (in), 16 VCC (power)

## TB5D2HDWE4
designator U?
5 V Quad PECL Driver with TTL Input and PECL Output, 4 Tx, -40 to +85 degC, 16-pin SOIC (DW), Pb-Free (RoHS); Part-to-Part Skew(Max)(ps): 1000; Manufacturer: Texas Instruments; PartNumber: TB5D2HDWE4; ICC(Max)(mA): 40; No. of Tx: 4; SubFamily: PECL PHY; xECL: TRUE; DatasheetVersion: SLLS579C; PackageVersion: revG, Jan-2011; PackageReference: DW16; PackageDescription: 16-Pin Small Outline Integrated Circuit, 10.3 x 7.5 mm, Pitch 1.27 mm Pitch; Eco-Plan: Pb-Free (RoHS); Input Signal: TTL; Output Signal: PECL; Mounting Technology: Surface Mount; Code_JEDEC: MS-013-AA; ComponentLink1Description: Datasheet; ComponentLink1URL: http://www.ti.com/general/docs/lit/getliterature.tsp?genericPartNumber=TB5D2H&fileType=pdf; ComponentLink2Description: URL Link1; ComponentLink2URL: SamplesURL:http://www.ti.com/product/tb5d2h#samples
footprint DW16_N (SOIC, 16-Leads, Body 10.3x7.5mm, Pitch 1.27mm, IPC Medium Density)
footprint DW16_L (SOIC, 16-Leads, Body 10.3x7.5mm, Pitch 1.27mm, IPC High Density)
footprint DW16_M (SOIC, 16-Leads, Body 10.3x7.5mm, Pitch 1.27mm, IPC Low Density)
pins: 1 AI (in), 2 AO (out), 3 ~{AO} (out), 4 E1 (in), 5 ~{BO} (out), 6 BO (out), 7 BI (in), 8 GND (power), 9 CI (in), 10 CO (out), 11 ~{CO} (out), 12 E2 (in), 13 ~{DO} (out), 14 DO (out), 15 DI (in), 16 VCC (power)

## TB5D2HDWR
designator U?
5 V Quad PECL Driver with TTL Input and PECL Output, 4 Tx, -40 to +85 degC, 16-pin SOIC (DW), Pb-Free (RoHS); Part-to-Part Skew(Max)(ps): 1000; Manufacturer: Texas Instruments; PartNumber: TB5D2HDWR; ICC(Max)(mA): 40; No. of Tx: 4; SubFamily: PECL PHY; xECL: TRUE; DatasheetVersion: SLLS579C; PackageVersion: revG, Jan-2011; PackageReference: DW16; PackageDescription: 16-Pin Small Outline Integrated Circuit, 10.3 x 7.5 mm, Pitch 1.27 mm Pitch; Eco-Plan: Pb-Free (RoHS); Input Signal: TTL; Output Signal: PECL; Mounting Technology: Surface Mount; Code_JEDEC: MS-013-AA; ComponentLink1Description: Datasheet; ComponentLink1URL: http://www.ti.com/general/docs/lit/getliterature.tsp?genericPartNumber=TB5D2H&fileType=pdf; ComponentLink2Description: URL Link1; ComponentLink2URL: SamplesURL:http://www.ti.com/product/tb5d2h#samples
footprint DW16_N (SOIC, 16-Leads, Body 10.3x7.5mm, Pitch 1.27mm, IPC Medium Density)
footprint DW16_L (SOIC, 16-Leads, Body 10.3x7.5mm, Pitch 1.27mm, IPC High Density)
footprint DW16_M (SOIC, 16-Leads, Body 10.3x7.5mm, Pitch 1.27mm, IPC Low Density)
pins: 1 AI (in), 2 AO (out), 3 ~{AO} (out), 4 E1 (in), 5 ~{BO} (out), 6 BO (out), 7 BI (in), 8 GND (power), 9 CI (in), 10 CO (out), 11 ~{CO} (out), 12 E2 (in), 13 ~{DO} (out), 14 DO (out), 15 DI (in), 16 VCC (power)

## TB5D2HDWRE4
designator U?
5 V Quad PECL Driver with TTL Input and PECL Output, 4 Tx, -40 to +85 degC, 16-pin SOIC (DW), Pb-Free (RoHS); Part-to-Part Skew(Max)(ps): 1000; Manufacturer: Texas Instruments; PartNumber: TB5D2HDWRE4; ICC(Max)(mA): 40; No. of Tx: 4; SubFamily: PECL PHY; xECL: TRUE; DatasheetVersion: SLLS579C; PackageVersion: revG, Jan-2011; PackageReference: DW16; PackageDescription: 16-Pin Small Outline Integrated Circuit, 10.3 x 7.5 mm, Pitch 1.27 mm Pitch; Eco-Plan: Pb-Free (RoHS); Input Signal: TTL; Output Signal: PECL; Mounting Technology: Surface Mount; Code_JEDEC: MS-013-AA; ComponentLink1Description: Datasheet; ComponentLink1URL: http://www.ti.com/general/docs/lit/getliterature.tsp?genericPartNumber=TB5D2H&fileType=pdf; ComponentLink2Description: URL Link1; ComponentLink2URL: SamplesURL:http://www.ti.com/product/tb5d2h#samples
footprint DW16_N (SOIC, 16-Leads, Body 10.3x7.5mm, Pitch 1.27mm, IPC Medium Density)
footprint DW16_L (SOIC, 16-Leads, Body 10.3x7.5mm, Pitch 1.27mm, IPC High Density)
footprint DW16_M (SOIC, 16-Leads, Body 10.3x7.5mm, Pitch 1.27mm, IPC Low Density)
pins: 1 AI (in), 2 AO (out), 3 ~{AO} (out), 4 E1 (in), 5 ~{BO} (out), 6 BO (out), 7 BI (in), 8 GND (power), 9 CI (in), 10 CO (out), 11 ~{CO} (out), 12 E2 (in), 13 ~{DO} (out), 14 DO (out), 15 DI (in), 16 VCC (power)

## TB5R1D
designator U?
Quad PECL Line Receiver with TTL Output, 4 Tx and 4 Rx, -40 to +85 degC, 16-pin SOIC (D), Pb-Free (RoHS); Part-to-Part Skew(Max)(ps): 1500; Manufacturer: Texas Instruments; PartNumber: TB5R1D; ICC(Max)(mA): 40; No. of Rx: 4; SubFamily: PECL PHY; xECL: TRUE; DatasheetVersion: SLLS588C; PackageVersion: revM, Jun-2011; PackageReference: D16; PackageDescription: 16-Pin Plastic Small Outline Integrated Circuit, 9.9 x 3.9 mm, Pitch 1.27 mm Pitch; Eco-Plan: Pb-Free (RoHS); Input Signal: PECL; No. of Tx: 4; Output Signal: TTL; Mounting Technology: Surface Mount; Code_JEDEC: MS-012AC; ComponentLink1Description: Datasheet; ComponentLink1URL: http://www.ti.com/general/docs/lit/getliterature.tsp?genericPartNumber=TB5R1&fileType=pdf; ComponentLink2Description: URL Link1; ComponentLink2URL: SamplesURL:http://www.ti.com/product/tb5r1#samples
footprint D16_N (SOIC, 16-Leads, Body 9.9x3.9mm, Pitch 1.27mm, IPC Medium Density)
footprint D16_L (SOIC, 16-Leads, Body 9.9x3.9mm, Pitch 1.27mm, IPC High Density)
footprint D16_M (SOIC, 16-Leads, Body 9.9x3.9mm, Pitch 1.27mm, IPC Low Density)
pins: 1 ~{AI} (in), 2 AI (in), 3 AO (hiz), 4 E1 (in), 5 BO (hiz), 6 BI (in), 7 ~{BI} (in), 8 GND (power), 9 ~{CI} (in), 10 CI (in), 11 CO (hiz), 12 ~{E2} (in), 13 DO (hiz), 14 DI (in), 15 ~{DI} (in), 16 VCC (power)

## TB5R1DE4
designator U?
Quad PECL Line Receiver with TTL Output, 4 Tx and 4 Rx, -40 to +85 degC, 16-pin SOIC (D), Pb-Free (RoHS); Part-to-Part Skew(Max)(ps): 1500; Manufacturer: Texas Instruments; PartNumber: TB5R1DE4; ICC(Max)(mA): 40; No. of Rx: 4; SubFamily: PECL PHY; xECL: TRUE; DatasheetVersion: SLLS588C; PackageVersion: revM, Jun-2011; PackageReference: D16; PackageDescription: 16-Pin Plastic Small Outline Integrated Circuit, 9.9 x 3.9 mm, Pitch 1.27 mm Pitch; Eco-Plan: Pb-Free (RoHS); Input Signal: PECL; No. of Tx: 4; Output Signal: TTL; Mounting Technology: Surface Mount; Code_JEDEC: MS-012AC; ComponentLink1Description: Datasheet; ComponentLink1URL: http://www.ti.com/general/docs/lit/getliterature.tsp?genericPartNumber=TB5R1&fileType=pdf; ComponentLink2Description: URL Link1; ComponentLink2URL: SamplesURL:http://www.ti.com/product/tb5r1#samples
footprint D16_N (SOIC, 16-Leads, Body 9.9x3.9mm, Pitch 1.27mm, IPC Medium Density)
footprint D16_L (SOIC, 16-Leads, Body 9.9x3.9mm, Pitch 1.27mm, IPC High Density)
footprint D16_M (SOIC, 16-Leads, Body 9.9x3.9mm, Pitch 1.27mm, IPC Low Density)
pins: 1 ~{AI} (in), 2 AI (in), 3 AO (hiz), 4 E1 (in), 5 BO (hiz), 6 BI (in), 7 ~{BI} (in), 8 GND (power), 9 ~{CI} (in), 10 CI (in), 11 CO (hiz), 12 ~{E2} (in), 13 DO (hiz), 14 DI (in), 15 ~{DI} (in), 16 VCC (power)

## TB5R1DR
designator U?
Quad PECL Line Receiver with TTL Output, 4 Tx and 4 Rx, -40 to +85 degC, 16-pin SOIC (D), Pb-Free (RoHS); Part-to-Part Skew(Max)(ps): 1500; Manufacturer: Texas Instruments; PartNumber: TB5R1DR; ICC(Max)(mA): 40; No. of Rx: 4; SubFamily: PECL PHY; xECL: TRUE; DatasheetVersion: SLLS588C; PackageVersion: revM, Jun-2011; PackageReference: D16; PackageDescription: 16-Pin Plastic Small Outline Integrated Circuit, 9.9 x 3.9 mm, Pitch 1.27 mm Pitch; Eco-Plan: Pb-Free (RoHS); Input Signal: PECL; No. of Tx: 4; Output Signal: TTL; Mounting Technology: Surface Mount; Code_JEDEC: MS-012AC; ComponentLink1Description: Datasheet; ComponentLink1URL: http://www.ti.com/general/docs/lit/getliterature.tsp?genericPartNumber=TB5R1&fileType=pdf; ComponentLink2Description: URL Link1; ComponentLink2URL: SamplesURL:http://www.ti.com/product/tb5r1#samples
footprint D16_N (SOIC, 16-Leads, Body 9.9x3.9mm, Pitch 1.27mm, IPC Medium Density)
footprint D16_L (SOIC, 16-Leads, Body 9.9x3.9mm, Pitch 1.27mm, IPC High Density)
footprint D16_M (SOIC, 16-Leads, Body 9.9x3.9mm, Pitch 1.27mm, IPC Low Density)
pins: 1 ~{AI} (in), 2 AI (in), 3 AO (hiz), 4 E1 (in), 5 BO (hiz), 6 BI (in), 7 ~{BI} (in), 8 GND (power), 9 ~{CI} (in), 10 CI (in), 11 CO (hiz), 12 ~{E2} (in), 13 DO (hiz), 14 DI (in), 15 ~{DI} (in), 16 VCC (power)

## TB5R1DRE4
designator U?
Quad PECL Line Receiver with TTL Output, 4 Tx and 4 Rx, -40 to +85 degC, 16-pin SOIC (D), Pb-Free (RoHS); Part-to-Part Skew(Max)(ps): 1500; Manufacturer: Texas Instruments; PartNumber: TB5R1DRE4; ICC(Max)(mA): 40; No. of Rx: 4; SubFamily: PECL PHY; xECL: TRUE; DatasheetVersion: SLLS588C; PackageVersion: revM, Jun-2011; PackageReference: D16; PackageDescription: 16-Pin Plastic Small Outline Integrated Circuit, 9.9 x 3.9 mm, Pitch 1.27 mm Pitch; Eco-Plan: Pb-Free (RoHS); Input Signal: PECL; No. of Tx: 4; Output Signal: TTL; Mounting Technology: Surface Mount; Code_JEDEC: MS-012AC; ComponentLink1Description: Datasheet; ComponentLink1URL: http://www.ti.com/general/docs/lit/getliterature.tsp?genericPartNumber=TB5R1&fileType=pdf; ComponentLink2Description: URL Link1; ComponentLink2URL: SamplesURL:http://www.ti.com/product/tb5r1#samples
footprint D16_N (SOIC, 16-Leads, Body 9.9x3.9mm, Pitch 1.27mm, IPC Medium Density)
footprint D16_L (SOIC, 16-Leads, Body 9.9x3.9mm, Pitch 1.27mm, IPC High Density)
footprint D16_M (SOIC, 16-Leads, Body 9.9x3.9mm, Pitch 1.27mm, IPC Low Density)
pins: 1 ~{AI} (in), 2 AI (in), 3 AO (hiz), 4 E1 (in), 5 BO (hiz), 6 BI (in), 7 ~{BI} (in), 8 GND (power), 9 ~{CI} (in), 10 CI (in), 11 CO (hiz), 12 ~{E2} (in), 13 DO (hiz), 14 DI (in), 15 ~{DI} (in), 16 VCC (power)

## TB5R1DW
designator U?
Quad PECL Line Receiver with TTL Output, 4 Tx and 4 Rx, -40 to +85 degC, 16-pin SOIC (DW), Pb-Free (RoHS); Part-to-Part Skew(Max)(ps): 1500; Manufacturer: Texas Instruments; PartNumber: TB5R1DW; ICC(Max)(mA): 40; No. of Rx: 4; SubFamily: PECL PHY; xECL: TRUE; DatasheetVersion: SLLS588C; PackageVersion: revG, Jan-2011; PackageReference: DW16; PackageDescription: 16-Pin Small Outline Integrated Circuit, 10.3 x 7.5 mm, Pitch 1.27 mm Pitch; Eco-Plan: Pb-Free (RoHS); Input Signal: PECL; No. of Tx: 4; Output Signal: TTL; Mounting Technology: Surface Mount; Code_JEDEC: MS-013-AA; ComponentLink1Description: Datasheet; ComponentLink1URL: http://www.ti.com/general/docs/lit/getliterature.tsp?genericPartNumber=TB5R1&fileType=pdf; ComponentLink2Description: URL Link1; ComponentLink2URL: SamplesURL:http://www.ti.com/product/tb5r1#samples
footprint DW16_N (SOIC, 16-Leads, Body 10.3x7.5mm, Pitch 1.27mm, IPC Medium Density)
footprint DW16_L (SOIC, 16-Leads, Body 10.3x7.5mm, Pitch 1.27mm, IPC High Density)
footprint DW16_M (SOIC, 16-Leads, Body 10.3x7.5mm, Pitch 1.27mm, IPC Low Density)
pins: 1 ~{AI} (in), 2 AI (in), 3 AO (hiz), 4 E1 (in), 5 BO (hiz), 6 BI (in), 7 ~{BI} (in), 8 GND (power), 9 ~{CI} (in), 10 CI (in), 11 CO (hiz), 12 ~{E2} (in), 13 DO (hiz), 14 DI (in), 15 ~{DI} (in), 16 VCC (power)

## TB5R1DWE4
designator U?
Quad PECL Line Receiver with TTL Output, 4 Tx and 4 Rx, -40 to +85 degC, 16-pin SOIC (DW), Pb-Free (RoHS); Part-to-Part Skew(Max)(ps): 1500; Manufacturer: Texas Instruments; PartNumber: TB5R1DWE4; ICC(Max)(mA): 40; No. of Rx: 4; SubFamily: PECL PHY; xECL: TRUE; DatasheetVersion: SLLS588C; PackageVersion: revG, Jan-2011; PackageReference: DW16; PackageDescription: 16-Pin Small Outline Integrated Circuit, 10.3 x 7.5 mm, Pitch 1.27 mm Pitch; Eco-Plan: Pb-Free (RoHS); Input Signal: PECL; No. of Tx: 4; Output Signal: TTL; Mounting Technology: Surface Mount; Code_JEDEC: MS-013-AA; ComponentLink1Description: Datasheet; ComponentLink1URL: http://www.ti.com/general/docs/lit/getliterature.tsp?genericPartNumber=TB5R1&fileType=pdf; ComponentLink2Description: URL Link1; ComponentLink2URL: SamplesURL:http://www.ti.com/product/tb5r1#samples
footprint DW16_N (SOIC, 16-Leads, Body 10.3x7.5mm, Pitch 1.27mm, IPC Medium Density)
footprint DW16_L (SOIC, 16-Leads, Body 10.3x7.5mm, Pitch 1.27mm, IPC High Density)
footprint DW16_M (SOIC, 16-Leads, Body 10.3x7.5mm, Pitch 1.27mm, IPC Low Density)
pins: 1 ~{AI} (in), 2 AI (in), 3 AO (hiz), 4 E1 (in), 5 BO (hiz), 6 BI (in), 7 ~{BI} (in), 8 GND (power), 9 ~{CI} (in), 10 CI (in), 11 CO (hiz), 12 ~{E2} (in), 13 DO (hiz), 14 DI (in), 15 ~{DI} (in), 16 VCC (power)

## TB5R1DWR
designator U?
Quad PECL Line Receiver with TTL Output, 4 Tx and 4 Rx, -40 to +85 degC, 16-pin SOIC (DW), Pb-Free (RoHS); Part-to-Part Skew(Max)(ps): 1500; Manufacturer: Texas Instruments; PartNumber: TB5R1DWR; ICC(Max)(mA): 40; No. of Rx: 4; SubFamily: PECL PHY; xECL: TRUE; DatasheetVersion: SLLS588C; PackageVersion: revG, Jan-2011; PackageReference: DW16; PackageDescription: 16-Pin Small Outline Integrated Circuit, 10.3 x 7.5 mm, Pitch 1.27 mm Pitch; Eco-Plan: Pb-Free (RoHS); Input Signal: PECL; No. of Tx: 4; Output Signal: TTL; Mounting Technology: Surface Mount; Code_JEDEC: MS-013-AA; ComponentLink1Description: Datasheet; ComponentLink1URL: http://www.ti.com/general/docs/lit/getliterature.tsp?genericPartNumber=TB5R1&fileType=pdf; ComponentLink2Description: URL Link1; ComponentLink2URL: SamplesURL:http://www.ti.com/product/tb5r1#samples
footprint DW16_N (SOIC, 16-Leads, Body 10.3x7.5mm, Pitch 1.27mm, IPC Medium Density)
footprint DW16_L (SOIC, 16-Leads, Body 10.3x7.5mm, Pitch 1.27mm, IPC High Density)
footprint DW16_M (SOIC, 16-Leads, Body 10.3x7.5mm, Pitch 1.27mm, IPC Low Density)
pins: 1 ~{AI} (in), 2 AI (in), 3 AO (hiz), 4 E1 (in), 5 BO (hiz), 6 BI (in), 7 ~{BI} (in), 8 GND (power), 9 ~{CI} (in), 10 CI (in), 11 CO (hiz), 12 ~{E2} (in), 13 DO (hiz), 14 DI (in), 15 ~{DI} (in), 16 VCC (power)

## TB5R1DWRE4
designator U?
Quad PECL Line Receiver with TTL Output, 4 Tx and 4 Rx, -40 to +85 degC, 16-pin SOIC (DW), Pb-Free (RoHS); Part-to-Part Skew(Max)(ps): 1500; Manufacturer: Texas Instruments; PartNumber: TB5R1DWRE4; ICC(Max)(mA): 40; No. of Rx: 4; SubFamily: PECL PHY; xECL: TRUE; DatasheetVersion: SLLS588C; PackageVersion: revG, Jan-2011; PackageReference: DW16; PackageDescription: 16-Pin Small Outline Integrated Circuit, 10.3 x 7.5 mm, Pitch 1.27 mm Pitch; Eco-Plan: Pb-Free (RoHS); Input Signal: PECL; No. of Tx: 4; Output Signal: TTL; Mounting Technology: Surface Mount; Code_JEDEC: MS-013-AA; ComponentLink1Description: Datasheet; ComponentLink1URL: http://www.ti.com/general/docs/lit/getliterature.tsp?genericPartNumber=TB5R1&fileType=pdf; ComponentLink2Description: URL Link1; ComponentLink2URL: SamplesURL:http://www.ti.com/product/tb5r1#samples
footprint DW16_N (SOIC, 16-Leads, Body 10.3x7.5mm, Pitch 1.27mm, IPC Medium Density)
footprint DW16_L (SOIC, 16-Leads, Body 10.3x7.5mm, Pitch 1.27mm, IPC High Density)
footprint DW16_M (SOIC, 16-Leads, Body 10.3x7.5mm, Pitch 1.27mm, IPC Low Density)
pins: 1 ~{AI} (in), 2 AI (in), 3 AO (hiz), 4 E1 (in), 5 BO (hiz), 6 BI (in), 7 ~{BI} (in), 8 GND (power), 9 ~{CI} (in), 10 CI (in), 11 CO (hiz), 12 ~{E2} (in), 13 DO (hiz), 14 DI (in), 15 ~{DI} (in), 16 VCC (power)

## TB5R2D
designator U?
Quad PECL Line Receiver with TTL Output, 4 Tx and 4 Rx, -40 to +85 degC, 16-pin SOIC (D), Pb-Free (RoHS); Part-to-Part Skew(Max)(ps): 1500; Manufacturer: Texas Instruments; PartNumber: TB5R2D; ICC(Max)(mA): 40; No. of Rx: 4; SubFamily: PECL PHY; xECL: TRUE; DatasheetVersion: SLLS588C; PackageVersion: revM, Jun-2011; PackageReference: D16; PackageDescription: 16-Pin Plastic Small Outline Integrated Circuit, 9.9 x 3.9 mm, Pitch 1.27 mm Pitch; Eco-Plan: Pb-Free (RoHS); Input Signal: PECL; No. of Tx: 4; Output Signal: TTL; Mounting Technology: Surface Mount; Code_JEDEC: MS-012AC; ComponentLink1Description: Datasheet; ComponentLink1URL: http://www.ti.com/general/docs/lit/getliterature.tsp?genericPartNumber=TB5R2&fileType=pdf; ComponentLink2Description: URL Link1; ComponentLink2URL: SamplesURL:http://www.ti.com/product/tb5r2#samples
footprint D16_N (SOIC, 16-Leads, Body 9.9x3.9mm, Pitch 1.27mm, IPC Medium Density)
footprint D16_L (SOIC, 16-Leads, Body 9.9x3.9mm, Pitch 1.27mm, IPC High Density)
footprint D16_M (SOIC, 16-Leads, Body 9.9x3.9mm, Pitch 1.27mm, IPC Low Density)
pins: 1 ~{AI} (in), 2 AI (in), 3 AO (out), 4 E1 (in), 5 BO (out), 6 BI (in), 7 ~{BI} (in), 8 GND (power), 9 ~{CI} (in), 10 CI (in), 11 CO (out), 12 ~{E2} (in), 13 DO (out), 14 DI (in), 15 ~{DI} (in), 16 VCC (power)

## TB5R2DE4
designator U?
Quad PECL Line Receiver with TTL Output, 4 Tx and 4 Rx, -40 to +85 degC, 16-pin SOIC (D), Pb-Free (RoHS); Part-to-Part Skew(Max)(ps): 1500; Manufacturer: Texas Instruments; PartNumber: TB5R2DE4; ICC(Max)(mA): 40; No. of Rx: 4; SubFamily: PECL PHY; xECL: TRUE; DatasheetVersion: SLLS588C; PackageVersion: revM, Jun-2011; PackageReference: D16; PackageDescription: 16-Pin Plastic Small Outline Integrated Circuit, 9.9 x 3.9 mm, Pitch 1.27 mm Pitch; Eco-Plan: Pb-Free (RoHS); Input Signal: PECL; No. of Tx: 4; Output Signal: TTL; Mounting Technology: Surface Mount; Code_JEDEC: MS-012AC; ComponentLink1Description: Datasheet; ComponentLink1URL: http://www.ti.com/general/docs/lit/getliterature.tsp?genericPartNumber=TB5R2&fileType=pdf; ComponentLink2Description: URL Link1; ComponentLink2URL: SamplesURL:http://www.ti.com/product/tb5r2#samples
footprint D16_N (SOIC, 16-Leads, Body 9.9x3.9mm, Pitch 1.27mm, IPC Medium Density)
footprint D16_L (SOIC, 16-Leads, Body 9.9x3.9mm, Pitch 1.27mm, IPC High Density)
footprint D16_M (SOIC, 16-Leads, Body 9.9x3.9mm, Pitch 1.27mm, IPC Low Density)
pins: 1 ~{AI} (in), 2 AI (in), 3 AO (out), 4 E1 (in), 5 BO (out), 6 BI (in), 7 ~{BI} (in), 8 GND (power), 9 ~{CI} (in), 10 CI (in), 11 CO (out), 12 ~{E2} (in), 13 DO (out), 14 DI (in), 15 ~{DI} (in), 16 VCC (power)

## TB5R2DR
designator U?
Quad PECL Line Receiver with TTL Output, 4 Tx and 4 Rx, -40 to +85 degC, 16-pin SOIC (D), Pb-Free (RoHS); Part-to-Part Skew(Max)(ps): 1500; Manufacturer: Texas Instruments; PartNumber: TB5R2DR; ICC(Max)(mA): 40; No. of Rx: 4; SubFamily: PECL PHY; xECL: TRUE; DatasheetVersion: SLLS588C; PackageVersion: revM, Jun-2011; PackageReference: D16; PackageDescription: 16-Pin Plastic Small Outline Integrated Circuit, 9.9 x 3.9 mm, Pitch 1.27 mm Pitch; Eco-Plan: Pb-Free (RoHS); Input Signal: PECL; No. of Tx: 4; Output Signal: TTL; Mounting Technology: Surface Mount; Code_JEDEC: MS-012AC; ComponentLink1Description: Datasheet; ComponentLink1URL: http://www.ti.com/general/docs/lit/getliterature.tsp?genericPartNumber=TB5R2&fileType=pdf; ComponentLink2Description: URL Link1; ComponentLink2URL: SamplesURL:http://www.ti.com/product/tb5r2#samples
footprint D16_N (SOIC, 16-Leads, Body 9.9x3.9mm, Pitch 1.27mm, IPC Medium Density)
footprint D16_L (SOIC, 16-Leads, Body 9.9x3.9mm, Pitch 1.27mm, IPC High Density)
footprint D16_M (SOIC, 16-Leads, Body 9.9x3.9mm, Pitch 1.27mm, IPC Low Density)
pins: 1 ~{AI} (in), 2 AI (in), 3 AO (out), 4 E1 (in), 5 BO (out), 6 BI (in), 7 ~{BI} (in), 8 GND (power), 9 ~{CI} (in), 10 CI (in), 11 CO (out), 12 ~{E2} (in), 13 DO (out), 14 DI (in), 15 ~{DI} (in), 16 VCC (power)

## TB5R2DRE4
designator U?
Quad PECL Line Receiver with TTL Output, 4 Tx and 4 Rx, -40 to +85 degC, 16-pin SOIC (D), Pb-Free (RoHS); Part-to-Part Skew(Max)(ps): 1500; Manufacturer: Texas Instruments; PartNumber: TB5R2DRE4; ICC(Max)(mA): 40; No. of Rx: 4; SubFamily: PECL PHY; xECL: TRUE; DatasheetVersion: SLLS588C; PackageVersion: revM, Jun-2011; PackageReference: D16; PackageDescription: 16-Pin Plastic Small Outline Integrated Circuit, 9.9 x 3.9 mm, Pitch 1.27 mm Pitch; Eco-Plan: Pb-Free (RoHS); Input Signal: PECL; No. of Tx: 4; Output Signal: TTL; Mounting Technology: Surface Mount; Code_JEDEC: MS-012AC; ComponentLink1Description: Datasheet; ComponentLink1URL: http://www.ti.com/general/docs/lit/getliterature.tsp?genericPartNumber=TB5R2&fileType=pdf; ComponentLink2Description: URL Link1; ComponentLink2URL: SamplesURL:http://www.ti.com/product/tb5r2#samples
footprint D16_N (SOIC, 16-Leads, Body 9.9x3.9mm, Pitch 1.27mm, IPC Medium Density)
footprint D16_L (SOIC, 16-Leads, Body 9.9x3.9mm, Pitch 1.27mm, IPC High Density)
footprint D16_M (SOIC, 16-Leads, Body 9.9x3.9mm, Pitch 1.27mm, IPC Low Density)
pins: 1 ~{AI} (in), 2 AI (in), 3 AO (out), 4 E1 (in), 5 BO (out), 6 BI (in), 7 ~{BI} (in), 8 GND (power), 9 ~{CI} (in), 10 CI (in), 11 CO (out), 12 ~{E2} (in), 13 DO (out), 14 DI (in), 15 ~{DI} (in), 16 VCC (power)

## TB5R2DW
designator U?
Quad PECL Line Receiver with TTL Output, 4 Tx and 4 Rx, -40 to +85 degC, 16-pin SOIC (DW), Pb-Free (RoHS); Part-to-Part Skew(Max)(ps): 1500; Manufacturer: Texas Instruments; PartNumber: TB5R2DW; ICC(Max)(mA): 40; No. of Rx: 4; SubFamily: PECL PHY; xECL: TRUE; DatasheetVersion: SLLS588C; PackageVersion: revG, Jan-2011; PackageReference: DW16; PackageDescription: 16-Pin Small Outline Integrated Circuit, 10.3 x 7.5 mm, Pitch 1.27 mm Pitch; Eco-Plan: Pb-Free (RoHS); Input Signal: PECL; No. of Tx: 4; Output Signal: TTL; Mounting Technology: Surface Mount; Code_JEDEC: MS-013-AA; ComponentLink1Description: Datasheet; ComponentLink1URL: http://www.ti.com/general/docs/lit/getliterature.tsp?genericPartNumber=TB5R2&fileType=pdf; ComponentLink2Description: URL Link1; ComponentLink2URL: SamplesURL:http://www.ti.com/product/tb5r2#samples
footprint DW16_N (SOIC, 16-Leads, Body 10.3x7.5mm, Pitch 1.27mm, IPC Medium Density)
footprint DW16_L (SOIC, 16-Leads, Body 10.3x7.5mm, Pitch 1.27mm, IPC High Density)
footprint DW16_M (SOIC, 16-Leads, Body 10.3x7.5mm, Pitch 1.27mm, IPC Low Density)
pins: 1 ~{AI} (in), 2 AI (in), 3 AO (hiz), 4 E1 (in), 5 BO (hiz), 6 BI (in), 7 ~{BI} (in), 8 GND (power), 9 ~{CI} (in), 10 CI (in), 11 CO (hiz), 12 ~{E2} (in), 13 DO (hiz), 14 DI (in), 15 ~{DI} (in), 16 VCC (power)